# Altium footprint library TX.PcbLib: 1 footprints
Each footprint in its own frame and in the unit in brackets; x right, y up, seen from the top. Pads: shape width x height; smd on the part's side, far side on the other; paste and mask are expansions set on the pad; w line width, h text height; cw(c..) or ccw(c..) is an arc to the next point about the centre after c.
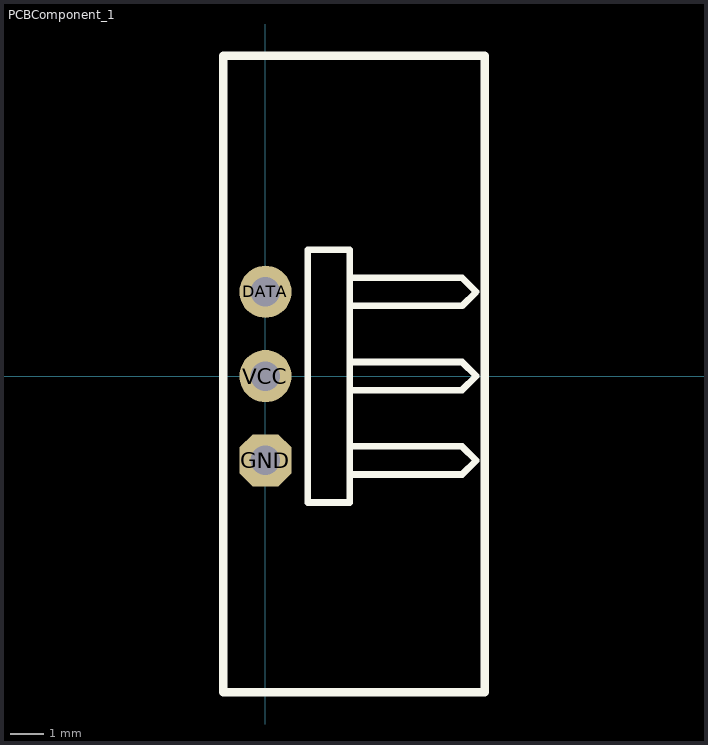
[diagram p0: the footprint, top view; thin cyan lines are the x and y axes]

## PCBComponent_1 [mil]
pads (3):
  round 62 hole 35: DATA(0,100) VCC(0,0)
  oct 62x62 hole 35: GND(0,-100)
Top Overlay:
  lines w8: 100,-116.67 233.33,-116.67 250,-100 233.33,-83.33 100,-83.33 ; 100,-16.67 233.33,-16.67 250,0 233.33,16.67 100,16.67 ; 100,83.33 233.33,83.33 250,100 233.33,116.67 100,116.67 ; 50,-150 50,150 100,150 100,-150 50,-150
  lines w10: -50,-375 260,-375 260,380 -50,380 -50,-375